# EAGLE library part LT1028 (library 1A-meinLib)
LT1028/LT1128, Ultralow Noise Precision High speed Op Amps, Linear Technology
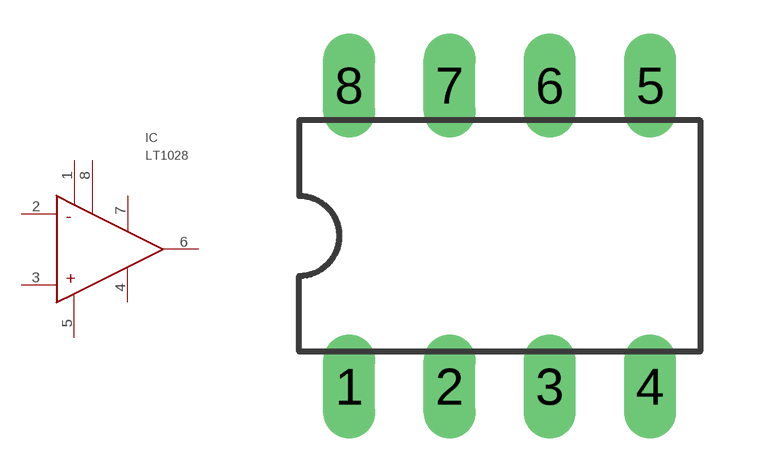
[diagram p179: symbol with the pads of DIL08; footprint DIL08]

Designator prefix IC

## LT1028  [DIL08]
1  TIM1  pas
2  2  in
3  3  in
4  V-  pwr
5  OVERCOMP  pas
6  OUT  out
7  V+  pwr
8  TRIM2  pas

## Footprint DIL08 (pad centres in mm)
Dual In Line Package
drill 0.813 long: 1 -3.81,-3.81; 2 -1.27,-3.81; 3 1.27,-3.81; 4 3.81,-3.81; 5 3.81,3.81; 6 1.27,3.81; 7 -1.27,3.81; 8 -3.81,3.81